# EAGLE library part PINA350ABSIDDFR (library PINA350ABSIDDFR)
INA350 Cost and Size Optimized, Low Power, 1.8-V to 5.5-V Selectable Gain Instrumentation Amplifier Source: Datasheet <https://www.ti.com/lit/ds/symlink/ina350.pdf?ts=1645143706286&ref_url=https%3A%2F%2Fwww.ti.com%2Fproduct%2FINA350>
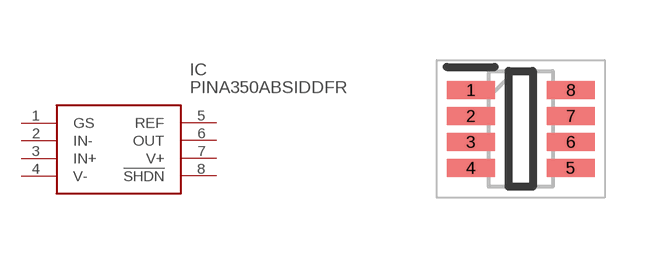
[diagram p0: symbol with the pads of SOT65P280X110-8N; footprint SOT65P280X110-8N]

Designator prefix IC

## PINA350ABSIDDFR (Description: INA350 Cost and Size Optimized, Low Power, 1.8-V to 5.5-V Selectable Gain Instrumentation Amplifier; Height: 1.1mm; Manufacturer_Name: Texas Instruments; Manufacturer_Part_Number: PINA350ABSIDDFR)  [SOT65P280X110-8N]
1  GS
2  IN-
3  IN+
4  V-
5  REF
6  OUT
7  V+
8  !SHDN

## Footprint SOT65P280X110-8N (pad centres in mm)
DDF0008A
smd 1.2 x 0.45: 1 -1.25,0.975; 2 -1.25,0.325; 3 -1.25,-0.325; 4 -1.25,-0.975; 5 1.25,-0.975; 6 1.25,-0.325; 7 1.25,0.325; 8 1.25,0.975